# Altium footprint library CON 0855135013.PcbLib: 1 footprints
Each footprint in its own frame and in the unit in brackets; x right, y up, seen from the top. Pads: shape width x height; smd on the part's side, far side on the other; paste and mask are expansions set on the pad; w line width, h text height; cw(c..) or ccw(c..) is an arc to the next point about the centre after c.
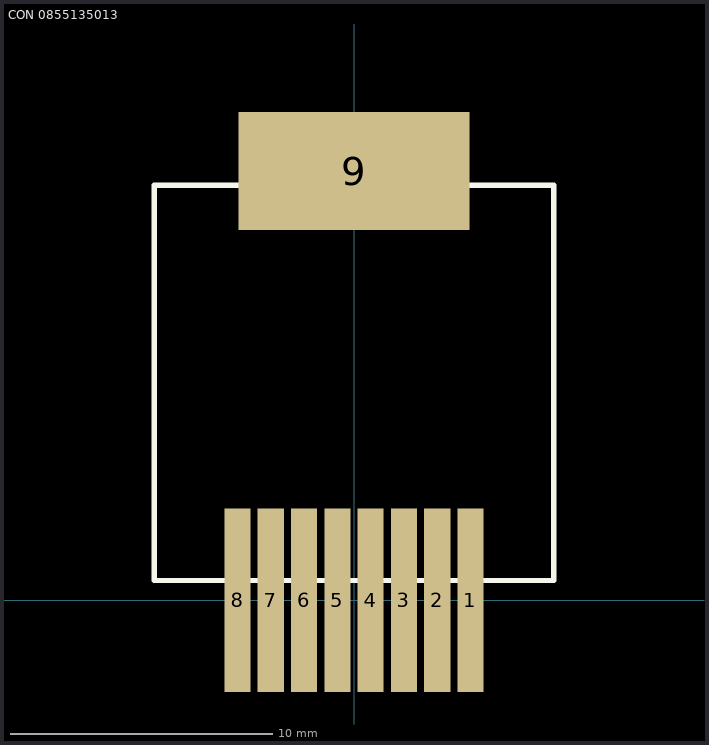
[diagram p0: the footprint, top view; thin cyan lines are the x and y axes]

## CON 0855135013 [mm]
pads (9):
  rect 1x7 smd mask+0.07: 1(4.445,0) 2(3.175,0) 3(1.905,0) 4(0.635,0) 5(-0.635,0) 6(-1.905,0) 7(-3.175,0) 8(-4.445,0)
  rect 8.8x4.5 smd mask+0.07: 9(0,16.383)
Top Overlay:
  lines w0.203: -7.62,0.762 7.62,0.762 7.62,15.842 -7.62,15.842 -7.62,0.762
3D body: height 12.83, standoff -0.02, extent -7.62,-1.793 7.62,17.687